# EAGLE library part TCS34725FN (library TCS34725FN)
Colour Light to Digital Converter DFN6 ams TCS34725FN Ambient Light Sensor Unit Surface Mount 6-Pin DFN Source: Datasheet <https://datasheet.datasheetarchive.com/originals/distributors/DKDS-7/120564.pdf>
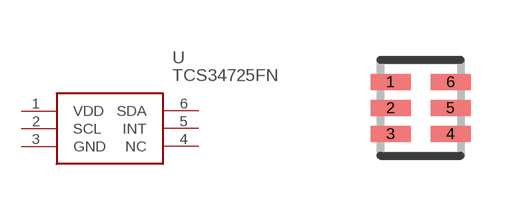
[diagram p0: symbol with the pads of FN_1; footprint FN_1]

Designator prefix U

## TCS34725FN (Arrow_Part_Number: TCS34725FN; Arrow_Price-Stock: https://www.arrow.com/en/products/tcs34725fn/ams-ag?region=nac; Description: Colour Light to Digital Converter DFN6 ams TCS34725FN Ambient Light Sensor Unit Surface Mount 6-Pin DFN; Height: mm; Manufacturer_Name: ams; Manufacturer_Part_Number: TCS34725FN; Mouser_Part_Number: 985-TCS34725FN; Mouser_Price-Stock: https://www.mouser.co.uk/ProductDetail/ams/TCS34725FN?qs=ECv0MKUHA8HkCOWi8XoeIw%3D%3D)  [FN_1]
1  VDD
2  SCL
3  GND
4  NC  nc
5  INT
6  SDA

## Footprint FN_1 (pad centres in mm)
FN_1
smd 1 x 0.4: 1 -0.75,0.65; 2 -0.75,0; 3 -0.75,-0.65; 4 0.75,-0.65; 5 0.75,0; 6 0.75,0.65